# Altium footprint library Daxxn_Packages.PcbLib: 84 footprints (part 2 of 6)
Each footprint in its own frame and in the unit in brackets; x right, y up, seen from the top. Pads: shape width x height; smd on the part's side, far side on the other; paste and mask are expansions set on the pad; w line width, h text height; cw(c..) or ccw(c..) is an arc to the next point about the centre after c.
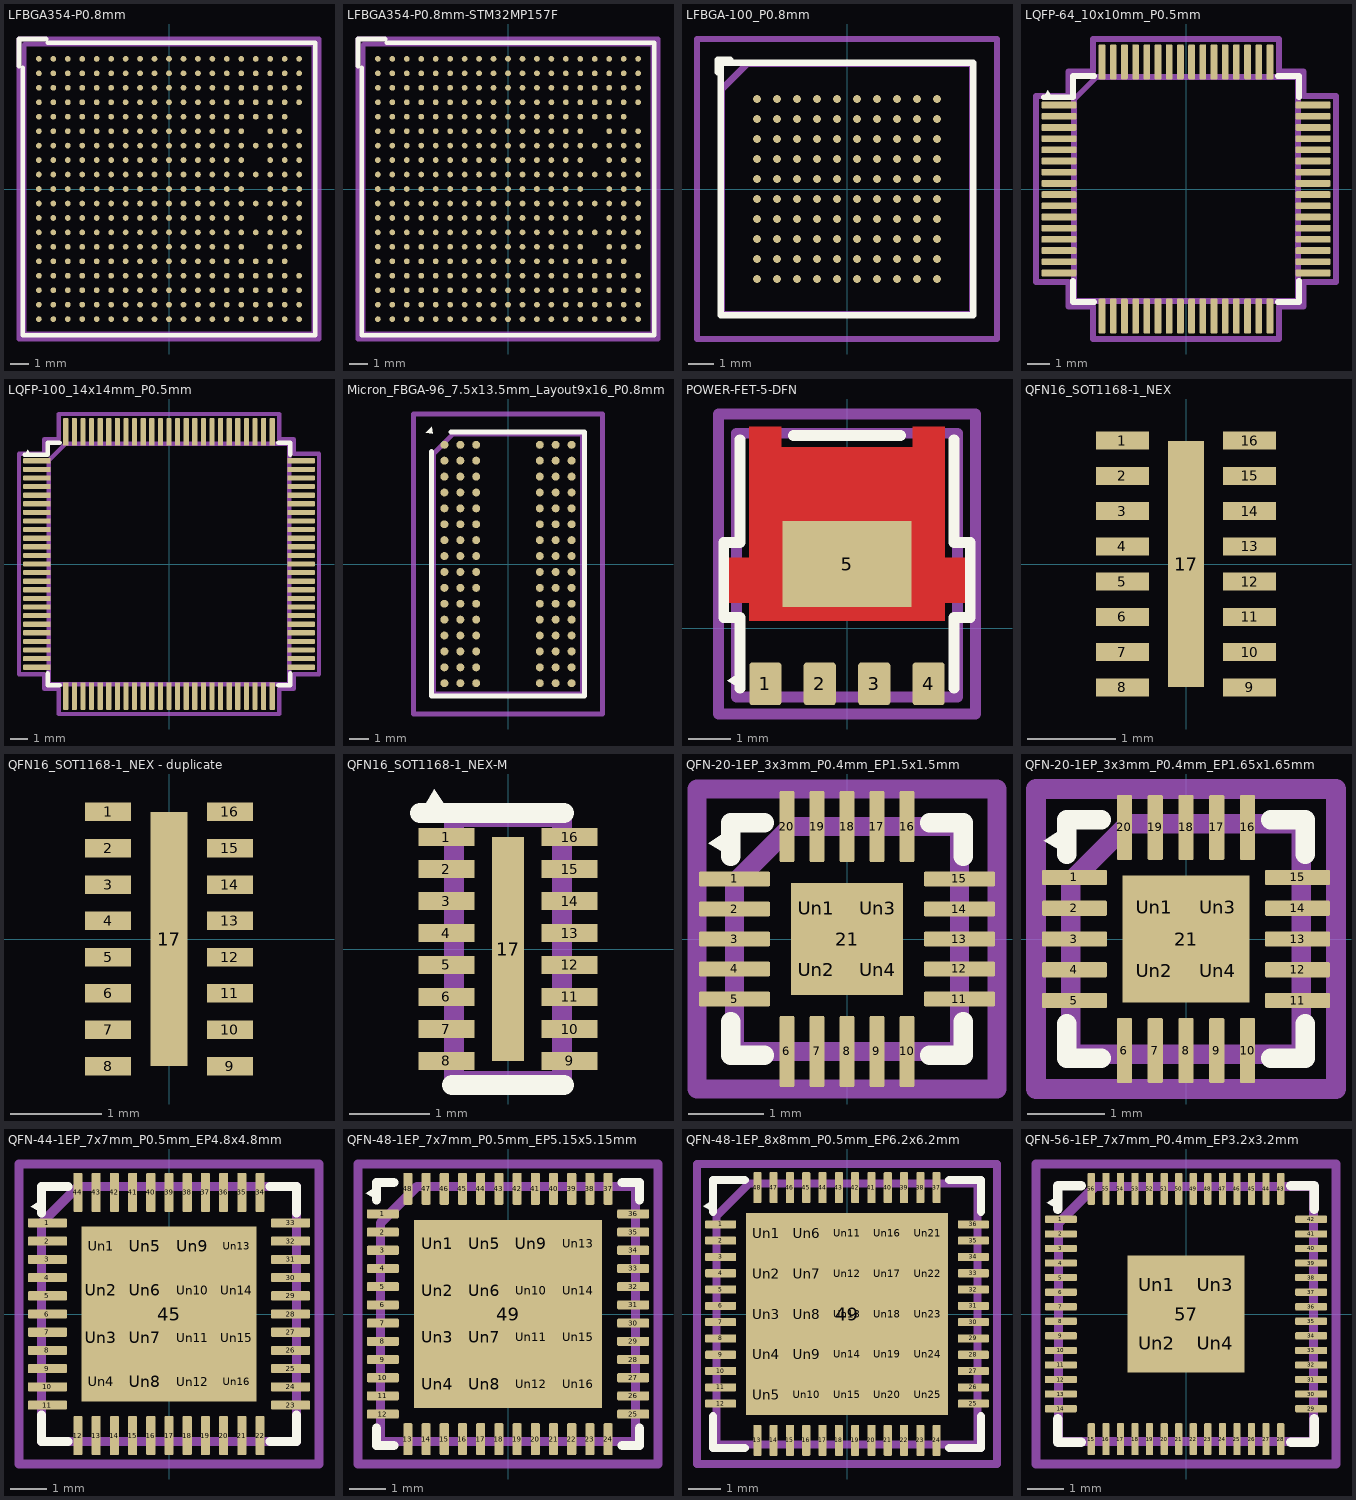
[diagram p1: the footprints below, top view; thin cyan lines are the x and y axes]

## LFBGA354-P0.8mm [mm]
pads (354):
  round 0.32 smd: A1(-7.2,7.2) A2(-6.4,7.2) A3(-5.6,7.2) A4(-4.8,7.2) A5(-4,7.2) A6(-3.2,7.2) A7(-2.4,7.2) A8(-1.6,7.2) A9(-0.8,7.2) A10(0,7.2) A11(0.8,7.2) A12(1.6,7.2) A13(2.4,7.2) A14(3.2,7.2) A15(4,7.2) A16(4.8,7.2) A17(5.6,7.2) A18(6.4,7.2) A19(7.2,7.2) B1(-7.2,6.4) B2(-6.4,6.4) B3(-5.6,6.4) B4(-4.8,6.4) B5(-4,6.4) B6(-3.2,6.4) B7(-2.4,6.4) B8(-1.6,6.4) B9(-0.8,6.4) B10(0,6.4) B11(0.8,6.4) B12(1.6,6.4) B13(2.4,6.4) B14(3.2,6.4) B15(4,6.4) B16(4.8,6.4) B17(5.6,6.4) B18(6.4,6.4) B19(7.2,6.4) C1(-7.2,5.6) C2(-6.4,5.6) C3(-5.6,5.6) C4(-4.8,5.6) C5(-4,5.6) C6(-3.2,5.6) C7(-2.4,5.6) C8(-1.6,5.6) C9(-0.8,5.6) C10(0,5.6) C11(0.8,5.6) C12(1.6,5.6) C13(2.4,5.6) C14(3.2,5.6) C15(4,5.6) C16(4.8,5.6) C17(5.6,5.6) C18(6.4,5.6) C19(7.2,5.6) D1(-7.2,4.8) D2(-6.4,4.8) D3(-5.6,4.8) D4(-4.8,4.8) D5(-4,4.8) D6(-3.2,4.8) D7(-2.4,4.8) D8(-1.6,4.8) D9(-0.8,4.8) D10(0,4.8) D11(0.8,4.8) D12(1.6,4.8) D13(2.4,4.8) D14(3.2,4.8) D15(4,4.8) D16(4.8,4.8) D17(5.6,4.8) D18(6.4,4.8) D19(7.2,4.8) E1(-7.2,4) E2(-6.4,4) E3(-5.6,4) E4(-4.8,4) E5(-4,4) E6(-3.2,4) E7(-2.4,4) E8(-1.6,4) E9(-0.8,4) E10(0,4) E11(0.8,4) E12(1.6,4) E13(2.4,4) E14(3.2,4) E15(4,4) E16(4.8,4) E17(5.6,4) E18(6.4,4) F1(-7.2,3.2) F2(-6.4,3.2) F3(-5.6,3.2) F4(-4.8,3.2) F5(-4,3.2) F6(-3.2,3.2) F7(-2.4,3.2) F8(-1.6,3.2) F9(-0.8,3.2) F10(0,3.2) F11(0.8,3.2) F12(1.6,3.2) F13(2.4,3.2) F14(3.2,3.2) F15(4,3.2) F17(5.6,3.2) F18(6.4,3.2) F19(7.2,3.2) G1(-7.2,2.4) G2(-6.4,2.4) G3(-5.6,2.4) G4(-4.8,2.4) G5(-4,2.4) G6(-3.2,2.4) G7(-2.4,2.4) G8(-1.6,2.4) G9(-0.8,2.4) G10(0,2.4) G11(0.8,2.4) G12(1.6,2.4) G13(2.4,2.4) G14(3.2,2.4) G15(4,2.4) G16(4.8,2.4) G17(5.6,2.4) G18(6.4,2.4) G19(7.2,2.4) H1(-7.2,1.6) H2(-6.4,1.6) H3(-5.6,1.6) H4(-4.8,1.6) H5(-4,1.6) H6(-3.2,1.6) H7(-2.4,1.6) H8(-1.6,1.6) H9(-0.8,1.6) H10(0,1.6) H11(0.8,1.6) H12(1.6,1.6) H13(2.4,1.6) H14(3.2,1.6) H15(4,1.6) H17(5.6,1.6) H18(6.4,1.6) H19(7.2,1.6) J1(-7.2,0.8) J2(-6.4,0.8) J3(-5.6,0.8) J4(-4.8,0.8) J5(-4,0.8) J6(-3.2,0.8) J7(-2.4,0.8) J8(-1.6,0.8) J9(-0.8,0.8) J10(0,0.8) J11(0.8,0.8) J12(1.6,0.8) J13(2.4,0.8) J14(3.2,0.8) J15(4,0.8) J16(4.8,0.8) J17(5.6,0.8) J18(6.4,0.8) J19(7.2,0.8) K1(-7.2,0) K2(-6.4,0) K3(-5.6,0) K4(-4.8,0) K5(-4,0) K6(-3.2,0) K7(-2.4,0) K8(-1.6,0) K9(-0.8,0) K10(0,0) K11(0.8,0) K12(1.6,0) K13(2.4,0) K14(3.2,0) K15(4,0) K17(5.6,0) K18(6.4,0) K19(7.2,0) L1(-7.2,-0.8) L2(-6.4,-0.8) L3(-5.6,-0.8) L4(-4.8,-0.8) L5(-4,-0.8) L6(-3.2,-0.8) L7(-2.4,-0.8) L8(-1.6,-0.8) L9(-0.8,-0.8) L10(0,-0.8) L11(0.8,-0.8) L12(1.6,-0.8) L13(2.4,-0.8) L14(3.2,-0.8) L15(4,-0.8) L16(4.8,-0.8) L17(5.6,-0.8) L18(6.4,-0.8) L19(7.2,-0.8) M1(-7.2,-1.6) M2(-6.4,-1.6) M3(-5.6,-1.6) M4(-4.8,-1.6) M5(-4,-1.6) M6(-3.2,-1.6) M7(-2.4,-1.6) M8(-1.6,-1.6) M9(-0.8,-1.6) M10(0,-1.6) M11(0.8,-1.6) M12(1.6,-1.6) M13(2.4,-1.6) M14(3.2,-1.6) M15(4,-1.6) M17(5.6,-1.6) M18(6.4,-1.6) M19(7.2,-1.6) N1(-7.2,-2.4) N2(-6.4,-2.4) N3(-5.6,-2.4) N4(-4.8,-2.4) N5(-4,-2.4) N6(-3.2,-2.4) N7(-2.4,-2.4) N8(-1.6,-2.4) N9(-0.8,-2.4) N10(0,-2.4) N11(0.8,-2.4) N12(1.6,-2.4) N13(2.4,-2.4) N14(3.2,-2.4) N15(4,-2.4) N16(4.8,-2.4) N17(5.6,-2.4) N18(6.4,-2.4) N19(7.2,-2.4) P1(-7.2,-3.2) P2(-6.4,-3.2) P3(-5.6,-3.2) P4(-4.8,-3.2) P5(-4,-3.2) P6(-3.2,-3.2) P7(-2.4,-3.2) P8(-1.6,-3.2) P9(-0.8,-3.2) P10(0,-3.2) P11(0.8,-3.2) P12(1.6,-3.2) P13(2.4,-3.2) P14(3.2,-3.2) P15(4,-3.2) P17(5.6,-3.2) P18(6.4,-3.2) P19(7.2,-3.2) R1(-7.2,-4) R2(-6.4,-4) R3(-5.6,-4) R4(-4.8,-4) R5(-4,-4) R6(-3.2,-4) R7(-2.4,-4) R8(-1.6,-4) R9(-0.8,-4) R10(0,-4) R11(0.8,-4) R12(1.6,-4) R13(2.4,-4) R14(3.2,-4) R15(4,-4) R16(4.8,-4) R17(5.6,-4) R18(6.4,-4) T1(-7.2,-4.8) T2(-6.4,-4.8) T3(-5.6,-4.8) T4(-4.8,-4.8) T5(-4,-4.8) T6(-3.2,-4.8) T7(-2.4,-4.8) T8(-1.6,-4.8) T9(-0.8,-4.8) T10(0,-4.8) T11(0.8,-4.8) T12(1.6,-4.8) T13(2.4,-4.8) T14(3.2,-4.8) T15(4,-4.8) T16(4.8,-4.8) T17(5.6,-4.8) T18(6.4,-4.8) T19(7.2,-4.8) U1(-7.2,-5.6) U2(-6.4,-5.6) U3(-5.6,-5.6) U4(-4.8,-5.6) U5(-4,-5.6) U6(-3.2,-5.6) U7(-2.4,-5.6) U8(-1.6,-5.6) U9(-0.8,-5.6) U10(0,-5.6) U11(0.8,-5.6) U12(1.6,-5.6) U13(2.4,-5.6) U14(3.2,-5.6) U15(4,-5.6) U16(4.8,-5.6) U17(5.6,-5.6) U18(6.4,-5.6) U19(7.2,-5.6) V1(-7.2,-6.4) V2(-6.4,-6.4) V3(-5.6,-6.4) V4(-4.8,-6.4) V5(-4,-6.4) V6(-3.2,-6.4) V7(-2.4,-6.4) V8(-1.6,-6.4) V9(-0.8,-6.4) V10(0,-6.4) V11(0.8,-6.4) V12(1.6,-6.4) V13(2.4,-6.4) V14(3.2,-6.4) V15(4,-6.4) V16(4.8,-6.4) V17(5.6,-6.4) V18(6.4,-6.4) V19(7.2,-6.4) W1(-7.2,-7.2) W2(-6.4,-7.2) W3(-5.6,-7.2) W4(-4.8,-7.2) W5(-4,-7.2) W6(-3.2,-7.2) W7(-2.4,-7.2) W8(-1.6,-7.2) W9(-0.8,-7.2) W10(0,-7.2) W11(0.8,-7.2) W12(1.6,-7.2) W13(2.4,-7.2) W14(3.2,-7.2) W15(4,-7.2) W16(4.8,-7.2) W17(5.6,-7.2) W18(6.4,-7.2) W19(7.2,-7.2)
F.SilkS:
  lines w0.254: -8.3,6.8 -8.3,8.3 -6.8,8.3 ; -8.1,6.7 -8.1,-8.1 8.1,-8.1 8.1,8.1 -6.7,8.1
F.CrtYd:
  lines w0.254: -8.3,-8.3 -8.3,8.3 8.3,8.3 8.3,-8.3 -8.3,-8.3
F.Fab:
  lines w0.254: -8,-8 -8,8 8,8 8,-8 -8,-8
  text "'.Designator'" at -2.073,0.33 h0.5

## LFBGA354-P0.8mm-STM32MP157F [mm]
pads (354):
  round 0.32 smd: A1(-7.2,7.2) A2(-6.4,7.2) A3(-5.6,7.2) A4(-4.8,7.2) A5(-4,7.2) A6(-3.2,7.2) A7(-2.4,7.2) A8(-1.6,7.2) A9(-0.8,7.2) A10(0,7.2) A11(0.8,7.2) A12(1.6,7.2) A13(2.4,7.2) A14(3.2,7.2) A15(4,7.2) A16(4.8,7.2) A17(5.6,7.2) A18(6.4,7.2) A19(7.2,7.2) B1(-7.2,6.4) B2(-6.4,6.4) B3(-5.6,6.4) B4(-4.8,6.4) B5(-4,6.4) B6(-3.2,6.4) B7(-2.4,6.4) B8(-1.6,6.4) B9(-0.8,6.4) B10(0,6.4) B11(0.8,6.4) B12(1.6,6.4) B13(2.4,6.4) B14(3.2,6.4) B15(4,6.4) B16(4.8,6.4) B17(5.6,6.4) B18(6.4,6.4) B19(7.2,6.4) C1(-7.2,5.6) C2(-6.4,5.6) C3(-5.6,5.6) C4(-4.8,5.6) C5(-4,5.6) C6(-3.2,5.6) C7(-2.4,5.6) C8(-1.6,5.6) C9(-0.8,5.6) C10(0,5.6) C11(0.8,5.6) C12(1.6,5.6) C13(2.4,5.6) C14(3.2,5.6) C15(4,5.6) C16(4.8,5.6) C17(5.6,5.6) C18(6.4,5.6) C19(7.2,5.6) D1(-7.2,4.8) D2(-6.4,4.8) D3(-5.6,4.8) D4(-4.8,4.8) D5(-4,4.8) D6(-3.2,4.8) D7(-2.4,4.8) D8(-1.6,4.8) D9(-0.8,4.8) D10(0,4.8) D11(0.8,4.8) D12(1.6,4.8) D13(2.4,4.8) D14(3.2,4.8) D15(4,4.8) D16(4.8,4.8) D17(5.6,4.8) D18(6.4,4.8) D19(7.2,4.8) E1(-7.2,4) E2(-6.4,4) E3(-5.6,4) E4(-4.8,4) E5(-4,4) E6(-3.2,4) E7(-2.4,4) E8(-1.6,4) E9(-0.8,4) E10(0,4) E11(0.8,4) E12(1.6,4) E13(2.4,4) E14(3.2,4) E15(4,4) E16(4.8,4) E17(5.6,4) E18(6.4,4) F1(-7.2,3.2) F2(-6.4,3.2) F3(-5.6,3.2) F4(-4.8,3.2) F5(-4,3.2) F6(-3.2,3.2) F7(-2.4,3.2) F8(-1.6,3.2) F9(-0.8,3.2) F10(0,3.2) F11(0.8,3.2) F12(1.6,3.2) F13(2.4,3.2) F14(3.2,3.2) F15(4,3.2) F17(5.6,3.2) F18(6.4,3.2) F19(7.2,3.2) G1(-7.2,2.4) G2(-6.4,2.4) G3(-5.6,2.4) G4(-4.8,2.4) G5(-4,2.4) G6(-3.2,2.4) G7(-2.4,2.4) G8(-1.6,2.4) G9(-0.8,2.4) G10(0,2.4) G11(0.8,2.4) G12(1.6,2.4) G13(2.4,2.4) G14(3.2,2.4) G15(4,2.4) G16(4.8,2.4) G17(5.6,2.4) G18(6.4,2.4) G19(7.2,2.4) H1(-7.2,1.6) H2(-6.4,1.6) H3(-5.6,1.6) H4(-4.8,1.6) H5(-4,1.6) H6(-3.2,1.6) H7(-2.4,1.6) H8(-1.6,1.6) H9(-0.8,1.6) H10(0,1.6) H11(0.8,1.6) H12(1.6,1.6) H13(2.4,1.6) H14(3.2,1.6) H15(4,1.6) H17(5.6,1.6) H18(6.4,1.6) H19(7.2,1.6) J1(-7.2,0.8) J2(-6.4,0.8) J3(-5.6,0.8) J4(-4.8,0.8) J5(-4,0.8) J6(-3.2,0.8) J7(-2.4,0.8) J8(-1.6,0.8) J9(-0.8,0.8) J10(0,0.8) J11(0.8,0.8) J12(1.6,0.8) J13(2.4,0.8) J14(3.2,0.8) J15(4,0.8) J16(4.8,0.8) J17(5.6,0.8) J18(6.4,0.8) J19(7.2,0.8) K1(-7.2,0) K2(-6.4,0) K3(-5.6,0) K4(-4.8,0) K5(-4,0) K6(-3.2,0) K7(-2.4,0) K8(-1.6,0) K9(-0.8,0) K10(0,0) K11(0.8,0) K12(1.6,0) K13(2.4,0) K14(3.2,0) K15(4,0) K17(5.6,0) K18(6.4,0) K19(7.2,0) L1(-7.2,-0.8) L2(-6.4,-0.8) L3(-5.6,-0.8) L4(-4.8,-0.8) L5(-4,-0.8) L6(-3.2,-0.8) L7(-2.4,-0.8) L8(-1.6,-0.8) L9(-0.8,-0.8) L10(0,-0.8) L11(0.8,-0.8) L12(1.6,-0.8) L13(2.4,-0.8) L14(3.2,-0.8) L15(4,-0.8) L16(4.8,-0.8) L17(5.6,-0.8) L18(6.4,-0.8) L19(7.2,-0.8) M1(-7.2,-1.6) M2(-6.4,-1.6) M3(-5.6,-1.6) M4(-4.8,-1.6) M5(-4,-1.6) M6(-3.2,-1.6) M7(-2.4,-1.6) M8(-1.6,-1.6) M9(-0.8,-1.6) M10(0,-1.6) M11(0.8,-1.6) M12(1.6,-1.6) M13(2.4,-1.6) M14(3.2,-1.6) M15(4,-1.6) M17(5.6,-1.6) M18(6.4,-1.6) M19(7.2,-1.6) N1(-7.2,-2.4) N2(-6.4,-2.4) N3(-5.6,-2.4) N4(-4.8,-2.4) N5(-4,-2.4) N6(-3.2,-2.4) N7(-2.4,-2.4) N8(-1.6,-2.4) N9(-0.8,-2.4) N10(0,-2.4) N11(0.8,-2.4) N12(1.6,-2.4) N13(2.4,-2.4) N14(3.2,-2.4) N15(4,-2.4) N16(4.8,-2.4) N17(5.6,-2.4) N18(6.4,-2.4) N19(7.2,-2.4) P1(-7.2,-3.2) P2(-6.4,-3.2) P3(-5.6,-3.2) P4(-4.8,-3.2) P5(-4,-3.2) P6(-3.2,-3.2) P7(-2.4,-3.2) P8(-1.6,-3.2) P9(-0.8,-3.2) P10(0,-3.2) P11(0.8,-3.2) P12(1.6,-3.2) P13(2.4,-3.2) P14(3.2,-3.2) P15(4,-3.2) P17(5.6,-3.2) P18(6.4,-3.2) P19(7.2,-3.2) R1(-7.2,-4) R2(-6.4,-4) R3(-5.6,-4) R4(-4.8,-4) R5(-4,-4) R6(-3.2,-4) R7(-2.4,-4) R8(-1.6,-4) R9(-0.8,-4) R10(0,-4) R11(0.8,-4) R12(1.6,-4) R13(2.4,-4) R14(3.2,-4) R15(4,-4) R16(4.8,-4) R17(5.6,-4) R18(6.4,-4) T1(-7.2,-4.8) T2(-6.4,-4.8) T3(-5.6,-4.8) T4(-4.8,-4.8) T5(-4,-4.8) T6(-3.2,-4.8) T7(-2.4,-4.8) T8(-1.6,-4.8) T9(-0.8,-4.8) T10(0,-4.8) T11(0.8,-4.8) T12(1.6,-4.8) T13(2.4,-4.8) T14(3.2,-4.8) T15(4,-4.8) T16(4.8,-4.8) T17(5.6,-4.8) T18(6.4,-4.8) T19(7.2,-4.8) U1(-7.2,-5.6) U2(-6.4,-5.6) U3(-5.6,-5.6) U4(-4.8,-5.6) U5(-4,-5.6) U6(-3.2,-5.6) U7(-2.4,-5.6) U8(-1.6,-5.6) U9(-0.8,-5.6) U10(0,-5.6) U11(0.8,-5.6) U12(1.6,-5.6) U13(2.4,-5.6) U14(3.2,-5.6) U15(4,-5.6) U16(4.8,-5.6) U17(5.6,-5.6) U18(6.4,-5.6) U19(7.2,-5.6) V1(-7.2,-6.4) V2(-6.4,-6.4) V3(-5.6,-6.4) V4(-4.8,-6.4) V5(-4,-6.4) V6(-3.2,-6.4) V7(-2.4,-6.4) V8(-1.6,-6.4) V9(-0.8,-6.4) V10(0,-6.4) V11(0.8,-6.4) V12(1.6,-6.4) V13(2.4,-6.4) V14(3.2,-6.4) V15(4,-6.4) V16(4.8,-6.4) V17(5.6,-6.4) V18(6.4,-6.4) V19(7.2,-6.4) W1(-7.2,-7.2) W2(-6.4,-7.2) W3(-5.6,-7.2) W4(-4.8,-7.2) W5(-4,-7.2) W6(-3.2,-7.2) W7(-2.4,-7.2) W8(-1.6,-7.2) W9(-0.8,-7.2) W10(0,-7.2) W11(0.8,-7.2) W12(1.6,-7.2) W13(2.4,-7.2) W14(3.2,-7.2) W15(4,-7.2) W16(4.8,-7.2) W17(5.6,-7.2) W18(6.4,-7.2) W19(7.2,-7.2)
F.SilkS:
  lines w0.254: -8.3,6.8 -8.3,8.3 -6.8,8.3 ; -8.1,6.7 -8.1,-8.1 8.1,-8.1 8.1,8.1 -6.7,8.1
F.CrtYd:
  lines w0.254: -8.3,-8.3 -8.3,8.3 8.3,8.3 8.3,-8.3 -8.3,-8.3
F.Fab:
  lines w0.254: -8,-8 -8,8 8,8 8,-8 -8,-8
  text "'.Designator'" at -2.073,0.33 h0.5

## LFBGA-100_P0.8mm [mm]
pads (100):
  round 0.32 smd: A0(-3.6,3.6) A1(-2.8,3.6) A2(-2,3.6) A3(-1.2,3.6) A4(-0.4,3.6) A5(0.4,3.6) A6(1.2,3.6) A7(2,3.6) A8(2.8,3.6) A9(3.6,3.6) B0(-3.6,2.8) B1(-2.8,2.8) B2(-2,2.8) B3(-1.2,2.8) B4(-0.4,2.8) B5(0.4,2.8) B6(1.2,2.8) B7(2,2.8) B8(2.8,2.8) B9(3.6,2.8) C0(-3.6,2) C1(-2.8,2) C2(-2,2) C3(-1.2,2) C4(-0.4,2) C5(0.4,2) C6(1.2,2) C7(2,2) C8(2.8,2) C9(3.6,2) D0(-3.6,1.2) D1(-2.8,1.2) D2(-2,1.2) D3(-1.2,1.2) D4(-0.4,1.2) D5(0.4,1.2) D6(1.2,1.2) D7(2,1.2) D8(2.8,1.2) D9(3.6,1.2) E0(-3.6,0.4) E1(-2.8,0.4) E2(-2,0.4) E3(-1.2,0.4) E4(-0.4,0.4) E5(0.4,0.4) E6(1.2,0.4) E7(2,0.4) E8(2.8,0.4) E9(3.6,0.4) F0(-3.6,-0.4) F1(-2.8,-0.4) F2(-2,-0.4) F3(-1.2,-0.4) F4(-0.4,-0.4) F5(0.4,-0.4) F6(1.2,-0.4) F7(2,-0.4) F8(2.8,-0.4) F9(3.6,-0.4) G0(-3.6,-1.2) G1(-2.8,-1.2) G2(-2,-1.2) G3(-1.2,-1.2) G4(-0.4,-1.2) G5(0.4,-1.2) G6(1.2,-1.2) G7(2,-1.2) G8(2.8,-1.2) G9(3.6,-1.2) H0(-3.6,-2) H1(-2.8,-2) H2(-2,-2) H3(-1.2,-2) H4(-0.4,-2) H5(0.4,-2) H6(1.2,-2) H7(2,-2) H8(2.8,-2) H9(3.6,-2) J0(-3.6,-2.8) J1(-2.8,-2.8) J2(-2,-2.8) J3(-1.2,-2.8) J4(-0.4,-2.8) J5(0.4,-2.8) J6(1.2,-2.8) J7(2,-2.8) J8(2.8,-2.8) J9(3.6,-2.8) K0(-3.6,-3.6) K1(-2.8,-3.6) K2(-2,-3.6) K3(-1.2,-3.6) K4(-0.4,-3.6) K5(0.4,-3.6) K6(1.2,-3.6) K7(2,-3.6) K8(2.8,-3.6) K9(3.6,-3.6)
F.SilkS:
  lines w0.254: -5.17,4.67 -5.17,5.17 -4.67,5.17 ; -5.05,-5.05 -5.05,5.05 5.05,5.05 5.05,-5.05 -5.05,-5.05
F.CrtYd:
  lines w0.254: -6,-6 -6,6 6,6 6,-6 -6,-6
F.Fab:
  lines w0.254: -5,-5 -5,4 -4,5 5,5 5,-5 -5,-5
  text "'.Designator'" at -1.037,-0.01 h0.25

## LQFP-64_10x10mm_P0.5mm [mm]
pads (64):
  rrect25% 1.55x0.3 smd: 1(-5.675,3.75) 2(-5.675,3.25) 3(-5.675,2.75) 4(-5.675,2.25) 5(-5.675,1.75) 6(-5.675,1.25) 7(-5.675,0.75) 8(-5.675,0.25) 9(-5.675,-0.25) 10(-5.675,-0.75) 11(-5.675,-1.25) 12(-5.675,-1.75) 13(-5.675,-2.25) 14(-5.675,-2.75) 15(-5.675,-3.25) 16(-5.675,-3.75) 33(5.675,-3.75) 34(5.675,-3.25) 35(5.675,-2.75) 36(5.675,-2.25) 37(5.675,-1.75) 38(5.675,-1.25) 39(5.675,-0.75) 40(5.675,-0.25) 41(5.675,0.25) 42(5.675,0.75) 43(5.675,1.25) 44(5.675,1.75) 45(5.675,2.25) 46(5.675,2.75) 47(5.675,3.25) 48(5.675,3.75)
  rrect25% 0.3x1.55 smd: 17(-3.75,-5.675) 18(-3.25,-5.675) 19(-2.75,-5.675) 20(-2.25,-5.675) 21(-1.75,-5.675) 22(-1.25,-5.675) 23(-0.75,-5.675) 24(-0.25,-5.675) 25(0.25,-5.675) 26(0.75,-5.675) 27(1.25,-5.675) 28(1.75,-5.675) 29(2.25,-5.675) 30(2.75,-5.675) 31(3.25,-5.675) 32(3.75,-5.675) 49(3.75,5.675) 50(3.25,5.675) 51(2.75,5.675) 52(2.25,5.675) 53(1.75,5.675) 54(1.25,5.675) 55(0.75,5.675) 56(0.25,5.675) 57(-0.25,5.675) 58(-0.75,5.675) 59(-1.25,5.675) 60(-1.75,5.675) 61(-2.25,5.675) 62(-2.75,5.675) 63(-3.25,5.675) 64(-3.75,5.675)
F.SilkS:
  region: -5.975,4.1 -6.35,4.1 -6.175,4.4
  lines w0.254: -6.35,4.1 -5.05,4.1 -5.05,5.05 -4.1,5.05 ; -5.05,-4.1 -5.05,-5.05 -4.1,-5.05 ; 4.1,-5.05 5.05,-5.05 5.05,-4.1 ; 4.1,5.05 5.05,5.05 5.05,4.1
F.CrtYd:
  lines w0.254: -6.7,-4.15 -6.7,0 -6.7,4.15 -5.25,4.15 -5.25,5.25 -4.15,5.25 -4.15,6.7 0,6.7 4.15,6.7 4.15,5.25 5.25,5.25 5.25,4.15 6.7,4.15 6.7,0 6.7,-4.15 5.25,-4.15 5.25,-5.25 4.15,-5.25 4.15,-6.7 0,-6.7 -4.15,-6.7 -4.15,-5.25 -5.25,-5.25 -5.25,-4.15 -6.7,-4.15
F.Fab:
  lines w0.254: -5,-5 -5,4 -4,5 5,5 5,-5 -5,-5
  text "'.Designator'" at -2.073,-0.02 h0.5

## LQFP-100_14x14mm_P0.5mm [mm]
pads (100):
  rrect25% 1.6x0.3 smd: 1(-7.675,6) 2(-7.675,5.5) 3(-7.675,5) 4(-7.675,4.5) 5(-7.675,4) 6(-7.675,3.5) 7(-7.675,3) 8(-7.675,2.5) 9(-7.675,2) 10(-7.675,1.5) 11(-7.675,1) 12(-7.675,0.5) 13(-7.675,0) 14(-7.675,-0.5) 15(-7.675,-1) 16(-7.675,-1.5) 17(-7.675,-2) 18(-7.675,-2.5) 19(-7.675,-3) 20(-7.675,-3.5) 21(-7.675,-4) 22(-7.675,-4.5) 23(-7.675,-5) 24(-7.675,-5.5) 25(-7.675,-6) 51(7.675,-6) 52(7.675,-5.5) 53(7.675,-5) 54(7.675,-4.5) 55(7.675,-4) 56(7.675,-3.5) 57(7.675,-3) 58(7.675,-2.5) 59(7.675,-2) 60(7.675,-1.5) 61(7.675,-1) 62(7.675,-0.5) 63(7.675,0) 64(7.675,0.5) 65(7.675,1) 66(7.675,1.5) 67(7.675,2) 68(7.675,2.5) 69(7.675,3) 70(7.675,3.5) 71(7.675,4) 72(7.675,4.5) 73(7.675,5) 74(7.675,5.5) 75(7.675,6)
  rrect25% 0.3x1.6 smd: 26(-6,-7.675) 27(-5.5,-7.675) 28(-5,-7.675) 29(-4.5,-7.675) 30(-4,-7.675) 31(-3.5,-7.675) 32(-3,-7.675) 33(-2.5,-7.675) 34(-2,-7.675) 35(-1.5,-7.675) 36(-1,-7.675) 37(-0.5,-7.675) 38(0,-7.675) 39(0.5,-7.675) 40(1,-7.675) 41(1.5,-7.675) 42(2,-7.675) 43(2.5,-7.675) 44(3,-7.675) 45(3.5,-7.675) 46(4,-7.675) 47(4.5,-7.675) 48(5,-7.675) 49(5.5,-7.675) 50(6,-7.675) 76(6,7.675) 77(5.5,7.675) 78(5,7.675) 79(4.5,7.675) 80(4,7.675) 81(3.5,7.675) 82(3,7.675) 83(2.5,7.675) 84(2,7.675) 85(1.5,7.675) 86(1,7.675) 87(0.5,7.675) 88(0,7.675) 89(-0.5,7.675) 90(-1,7.675) 91(-1.5,7.675) 92(-2,7.675) 93(-2.5,7.675) 94(-3,7.675) 95(-3.5,7.675) 96(-4,7.675) 97(-4.5,7.675) 98(-5,7.675) 99(-5.5,7.675) 100(-6,7.675)
F.SilkS:
  region: -8.025,6.35 -8.4,6.35 -8.225,6.65
  lines w0.254: -8.4,6.35 -7.05,6.35 -7.05,7.05 -6.35,7.05 ; -7.05,-6.35 -7.05,-7.05 -6.35,-7.05 ; 6.35,-7.05 7.05,-7.05 7.05,-6.35 ; 6.35,7.05 7.05,7.05 7.05,6.35
F.CrtYd:
  lines w0.254: -8.72,-6.4 -8.72,0 -8.72,6.4 -7.25,6.4 -7.25,7.25 -6.4,7.25 -6.4,8.72 0,8.72 6.4,8.72 6.4,7.25 7.25,7.25 7.25,6.4 8.72,6.4 8.72,0 8.72,-6.4 7.25,-6.4 7.25,-7.25 6.4,-7.25 6.4,-8.72 0,-8.72 -6.4,-8.72 -6.4,-7.25 -7.25,-7.25 -7.25,-6.4 -8.72,-6.4
F.Fab:
  lines w0.254: -7,-7 -7,6 -6,7 7,7 7,-7 -7,-7
  text "'.Designator'" at -2.073,0.02 h0.5

## Micron_FBGA-96_7.5x13.5mm_Layout9x16_P0.8mm [mm]
pads (96):
  round 0.4 smd: A1(-3.2,6) A2(-2.4,6) A3(-1.6,6) A7(1.6,6) A8(2.4,6) A9(3.2,6) B1(-3.2,5.2) B2(-2.4,5.2) B3(-1.6,5.2) B7(1.6,5.2) B8(2.4,5.2) B9(3.2,5.2) C1(-3.2,4.4) C2(-2.4,4.4) C3(-1.6,4.4) C7(1.6,4.4) C8(2.4,4.4) C9(3.2,4.4) D1(-3.2,3.6) D2(-2.4,3.6) D3(-1.6,3.6) D7(1.6,3.6) D8(2.4,3.6) D9(3.2,3.6) E1(-3.2,2.8) E2(-2.4,2.8) E3(-1.6,2.8) E7(1.6,2.8) E8(2.4,2.8) E9(3.2,2.8) F1(-3.2,2) F2(-2.4,2) F3(-1.6,2) F7(1.6,2) F8(2.4,2) F9(3.2,2) G1(-3.2,1.2) G2(-2.4,1.2) G3(-1.6,1.2) G7(1.6,1.2) G8(2.4,1.2) G9(3.2,1.2) H1(-3.2,0.4) H2(-2.4,0.4) H3(-1.6,0.4) H7(1.6,0.4) H8(2.4,0.4) H9(3.2,0.4) J1(-3.2,-0.4) J2(-2.4,-0.4) J3(-1.6,-0.4) J7(1.6,-0.4) J8(2.4,-0.4) J9(3.2,-0.4) K1(-3.2,-1.2) K2(-2.4,-1.2) K3(-1.6,-1.2) K7(1.6,-1.2) K8(2.4,-1.2) K9(3.2,-1.2) L1(-3.2,-2) L2(-2.4,-2) L3(-1.6,-2) L7(1.6,-2) L8(2.4,-2) L9(3.2,-2) M1(-3.2,-2.8) M2(-2.4,-2.8) M3(-1.6,-2.8) M7(1.6,-2.8) M8(2.4,-2.8) M9(3.2,-2.8) N1(-3.2,-3.6) N2(-2.4,-3.6) N3(-1.6,-3.6) N7(1.6,-3.6) N8(2.4,-3.6) N9(3.2,-3.6) P1(-3.2,-4.4) P2(-2.4,-4.4) P3(-1.6,-4.4) P7(1.6,-4.4) P8(2.4,-4.4) P9(3.2,-4.4) R1(-3.2,-5.2) R2(-2.4,-5.2) R3(-1.6,-5.2) R7(1.6,-5.2) R8(2.4,-5.2) R9(3.2,-5.2) T1(-3.2,-6) T2(-2.4,-6) T3(-1.6,-6) T7(1.6,-6) T8(2.4,-6) T9(3.2,-6)
F.SilkS:
  region: -3.8,6.55 -4.15,6.6 -3.85,6.9
  lines w0.254: -3.86,5.65 -3.86,-6.65 3.86,-6.65 3.86,6.65 -2.86,6.65
F.CrtYd:
  lines w0.254: -4.75,-7.55 -4.75,7.55 4.75,7.55 4.75,-7.55 -4.75,-7.55
F.Fab:
  lines w0.254: -3.75,-6.55 -3.75,5.55 -2.75,6.55 3.75,6.55 3.75,-6.55 -3.75,-6.55
  text "'.Designator'" at -0.015,-1.037 h0.25

## POWER-FET-5-DFN [mm]
pads (5):
  rrect20% 0.75x1 smd: 1(-1.905,-1.295) 2(-0.635,-1.295) 3(0.635,-1.295) 4(1.905,-1.295)
  rect 3x2 smd: 5(0,1.5)
F.Cu:
  region: -1.53,3.29 -2.28,3.29 -2.28,3.765 -1.53,3.765
  region: 2.28,3.29 1.53,3.29 1.53,3.765 2.28,3.765
  region: 2.28,1.65 2.775,1.65 2.775,0.595 2.28,0.595 2.28,0.17 -2.28,0.17 -2.28,0.595 -2.775,0.595 -2.775,1.65 -2.28,1.65 -2.28,4.7 -1.53,4.7 -1.53,4.225 1.53,4.225 1.53,4.7 2.28,4.7
F.SilkS:
  region: -2.5,-1.4 -2.8,-1.225 -2.5,-1.025
  lines w0.254: -2.5,-1.4 -2.5,0.25 -2.875,0.25 -2.875,2 -2.5,2 -2.5,4.4 ; -1.25,4.5 1.25,4.5 ; 2.5,-1.4 2.5,0.25 2.875,0.25 2.875,2 2.5,2 2.5,4.4
F.Paste:
  region: 1.5,0.5 -1.5,0.5 -1.5,4 1.5,4
  lines w0.254: -1.5,0.5 -1.5,4 1.5,4 1.5,0.5 -1.5,0.5
F.Mask:
  region: -1.53,3.29 -2.28,3.29 -2.28,3.765 -1.53,3.765
  region: 2.28,3.29 1.53,3.29 1.53,3.765 2.28,3.765
  region: 2.28,1.65 2.775,1.65 2.775,0.595 2.28,0.595 2.28,0.17 -2.28,0.17 -2.28,0.595 -2.775,0.595 -2.775,1.65 -2.28,1.65 -2.28,4.7 -1.53,4.7 -1.53,4.225 1.53,4.225 1.53,4.7 2.28,4.7
F.CrtYd:
  lines w0.254: -3,-2 -3,5 3,5 3,-2 -3,-2
F.Fab:
  lines w0.254: -2.575,-1.6 -2.575,4.55 2.575,4.55 2.575,-1.6 -2.575,-1.6
  text "'.Designator'" at -1.037,1.065 h0.25

## QFN16_SOT1168-1_NEX [mm]
pads (17):
  rect 0.605x0.204 smd: 1(-0.721,1.4) 2(-0.721,1) 3(-0.721,0.6) 4(-0.721,0.2) 5(-0.721,-0.2) 6(-0.721,-0.6) 7(-0.721,-1) 8(-0.721,-1.4) 9(0.721,-1.4) 10(0.721,-1) 11(0.721,-0.6) 12(0.721,-0.2) 13(0.721,0.2) 14(0.721,0.6) 15(0.721,1) 16(0.721,1.4)
  rect 0.406x2.794 smd: 17(0,0)
F.Fab:
  text "'.Designator'" at -4.047,-0.84 h1

## QFN16_SOT1168-1_NEX - duplicate [mm]
pads (17):
  rect 0.505x0.204 smd: 1(-0.671,1.4) 2(-0.671,1) 3(-0.671,0.6) 4(-0.671,0.2) 5(-0.671,-0.2) 6(-0.671,-0.6) 7(-0.671,-1) 8(-0.671,-1.4) 9(0.671,-1.4) 10(0.671,-1) 11(0.671,-0.6) 12(0.671,-0.2) 13(0.671,0.2) 14(0.671,0.6) 15(0.671,1) 16(0.671,1.4)
  rect 0.406x2.794 smd: 17(0,0)
F.Fab:
  text "'.Designator'" at -4.047,-0.84 h1

## QFN16_SOT1168-1_NEX-M [mm]
pads (17):
  rect 0.7x0.22 smd: 1(-0.771,1.4) 2(-0.771,1) 3(-0.771,0.6) 4(-0.771,0.2) 5(-0.771,-0.2) 6(-0.771,-0.6) 7(-0.771,-1) 8(-0.771,-1.4) 9(0.771,-1.4) 10(0.771,-1) 11(0.771,-0.6) 12(0.771,-0.2) 13(0.771,0.2) 14(0.771,0.6) 15(0.771,1) 16(0.771,1.4)
  rect 0.4x2.8 smd: 17(0,0)
F.SilkS:
  region: -0.725,1.7 -1.1,1.7 -0.925,2
  lines w0.254: -1.1,1.7 0.7,1.7 ; -0.7,-1.7 0.7,-1.7
F.Fab:
  lines w0.254: -0.675,-1.65 -0.675,1.65 0.675,1.65 0.675,-1.65 -0.675,-1.65
  text "'.Designator'" at -0.065,-1.037 h0.25

## QFN-20-1EP_3x3mm_P0.4mm_EP1.5x1.5mm [mm]
pads (25):
  rrect25% 0.95x0.2 smd: 1(-1.5,0.8) 2(-1.5,0.4) 3(-1.5,0) 4(-1.5,-0.4) 5(-1.5,-0.8) 11(1.5,-0.8) 12(1.5,-0.4) 13(1.5,0) 14(1.5,0.4) 15(1.5,0.8)
  rrect25% 0.2x0.95 smd: 6(-0.8,-1.5) 7(-0.4,-1.5) 8(0,-1.5) 9(0.4,-1.5) 10(0.8,-1.5) 16(0.8,1.5) 17(0.4,1.5) 18(0,1.5) 19(-0.4,1.5) 20(-0.8,1.5)
  rect 1.5x1.5 smd: 21(0,0)
  rrect25% 0.67x0.67 on Top Paste: Un1(-0.41,0.41) Un2(-0.41,-0.41) Un3(0.41,0.41) Un4(0.41,-0.41)
F.SilkS:
  region: -1.55,1.1 -1.85,1.275 -1.55,1.475
  lines w0.254: -1.55,-1.1 -1.55,-1.55 -1.1,-1.55 ; -1.55,1.1 -1.55,1.55 -1.1,1.55 ; 1.1,-1.55 1.55,-1.55 1.55,-1.1 ; 1.1,1.55 1.55,1.55 1.55,1.1
F.CrtYd:
  lines w0.254: -2,-2 -2,2 2,2 2,-2 -2,-2
F.Fab:
  lines w0.254: -1.5,-1.5 -1.5,0.75 -0.75,1.5 1.5,1.5 1.5,-1.5 -1.5,-1.5
  text "'.Designator'" at -1.037,0.015 h0.25

## QFN-20-1EP_3x3mm_P0.4mm_EP1.65x1.65mm [mm]
pads (25):
  rrect25% 0.85x0.2 smd: 1(-1.45,0.8) 2(-1.45,0.4) 3(-1.45,0) 4(-1.45,-0.4) 5(-1.45,-0.8) 11(1.45,-0.8) 12(1.45,-0.4) 13(1.45,0) 14(1.45,0.4) 15(1.45,0.8)
  rrect25% 0.2x0.85 smd: 6(-0.8,-1.45) 7(-0.4,-1.45) 8(0,-1.45) 9(0.4,-1.45) 10(0.8,-1.45) 16(0.8,1.45) 17(0.4,1.45) 18(0,1.45) 19(-0.4,1.45) 20(-0.8,1.45)
  rect 1.65x1.65 smd: 21(0,0)
  rrect25% 0.67x0.67 on Top Paste: Un1(-0.41,0.41) Un2(-0.41,-0.41) Un3(0.41,0.41) Un4(0.41,-0.41)
F.SilkS:
  region: -1.55,1.1 -1.85,1.275 -1.55,1.475
  lines w0.254: -1.55,-1.1 -1.55,-1.55 -1.1,-1.55 ; -1.55,1.1 -1.55,1.55 -1.1,1.55 ; 1.1,-1.55 1.55,-1.55 1.55,-1.1 ; 1.1,1.55 1.55,1.55 1.55,1.1
F.CrtYd:
  lines w0.254: -1.95,-1.95 -1.95,1.95 1.95,1.95 1.95,-1.95 -1.95,-1.95
F.Fab:
  lines w0.254: -1.5,-1.5 -1.5,0.75 -0.75,1.5 1.5,1.5 1.5,-1.5 -1.5,-1.5
  text "'.Designator'" at -1.037,-0.01 h0.25

## QFN-44-1EP_7x7mm_P0.5mm_EP4.8x4.8mm [mm]
pads (61):
  rrect25% 1.075x0.25 smd: 1(-3.337,2.5) 2(-3.337,2) 3(-3.337,1.5) 4(-3.337,1) 5(-3.337,0.5) 6(-3.337,0) 7(-3.337,-0.5) 8(-3.337,-1) 9(-3.337,-1.5) 10(-3.337,-2) 11(-3.337,-2.5) 23(3.337,-2.5) 24(3.337,-2) 25(3.337,-1.5) 26(3.337,-1) 27(3.337,-0.5) 28(3.337,0) 29(3.337,0.5) 30(3.337,1) 31(3.337,1.5) 32(3.337,2) 33(3.337,2.5)
  rrect25% 0.25x1.075 smd: 12(-2.5,-3.337) 13(-2,-3.337) 14(-1.5,-3.337) 15(-1,-3.337) 16(-0.5,-3.337) 17(0,-3.337) 18(0.5,-3.337) 19(1,-3.337) 20(1.5,-3.337) 21(2,-3.337) 22(2.5,-3.337) 34(2.5,3.337) 35(2,3.337) 36(1.5,3.337) 37(1,3.337) 38(0.5,3.337) 39(0,3.337) 40(-0.5,3.337) 41(-1,3.337) 42(-1.5,3.337) 43(-2,3.337) 44(-2.5,3.337)
  rect 4.8x4.8 smd: 45(0,0)
  rrect24% 0.875x0.875 on Top Paste: Un1(-1.863,1.863) Un4(-1.863,-1.863) Un13(1.863,1.863) Un16(1.863,-1.863)
  rrect24% 0.875x1.05 on Top Paste: Un2(-1.863,0.65) Un3(-1.863,-0.65) Un14(1.863,0.65) Un15(1.863,-0.65)
  rrect24% 1.05x0.875 on Top Paste: Un5(-0.65,1.863) Un8(-0.65,-1.863) Un9(0.65,1.863) Un12(0.65,-1.863)
  rrect24% 1.05x1.05 on Top Paste: Un6(-0.65,0.65) Un7(-0.65,-0.65) Un10(0.65,0.65) Un11(0.65,-0.65)
F.SilkS:
  region: -3.5,2.775 -3.8,2.95 -3.5,3.15
  lines w0.254: -3.5,-2.775 -3.5,-3.5 -2.775,-3.5 ; -3.5,2.775 -3.5,3.5 -2.775,3.5 ; 2.775,-3.5 3.5,-3.5 3.5,-2.775 ; 2.775,3.5 3.5,3.5 3.5,2.775
F.CrtYd:
  lines w0.254: -4.12,-4.12 -4.12,4.12 4.12,4.12 4.12,-4.12 -4.12,-4.12
F.Fab:
  lines w0.254: -3.5,-3.5 -3.5,2.5 -2.5,3.5 3.5,3.5 3.5,-3.5 -3.5,-3.5
  text "'.Designator'" at -1.037,0.04 h0.25

## QFN-48-1EP_7x7mm_P0.5mm_EP5.15x5.15mm [mm]
pads (65):
  rrect25% 0.875x0.25 smd: 1(-3.437,2.75) 2(-3.437,2.25) 3(-3.437,1.75) 4(-3.437,1.25) 5(-3.437,0.75) 6(-3.437,0.25) 7(-3.437,-0.25) 8(-3.437,-0.75) 9(-3.437,-1.25) 10(-3.437,-1.75) 11(-3.437,-2.25) 12(-3.437,-2.75) 25(3.437,-2.75) 26(3.437,-2.25) 27(3.437,-1.75) 28(3.437,-1.25) 29(3.437,-0.75) 30(3.437,-0.25) 31(3.437,0.25) 32(3.437,0.75) 33(3.437,1.25) 34(3.437,1.75) 35(3.437,2.25) 36(3.437,2.75)
  rrect25% 0.25x0.875 smd: 13(-2.75,-3.437) 14(-2.25,-3.437) 15(-1.75,-3.437) 16(-1.25,-3.437) 17(-0.75,-3.437) 18(-0.25,-3.437) 19(0.25,-3.437) 20(0.75,-3.437) 21(1.25,-3.437) 22(1.75,-3.437) 23(2.25,-3.437) 24(2.75,-3.437) 37(2.75,3.437) 38(2.25,3.437) 39(1.75,3.437) 40(1.25,3.437) 41(0.75,3.437) 42(0.25,3.437) 43(-0.25,3.437) 44(-0.75,3.437) 45(-1.25,3.437) 46(-1.75,3.437) 47(-2.25,3.437) 48(-2.75,3.437)
  rect 5.15x5.15 smd: 49(0,0)
  rrect24% 1.04x1.04 on Top Paste: Un1(-1.935,1.935) Un2(-1.935,0.645) Un3(-1.935,-0.645) Un4(-1.935,-1.935) Un5(-0.645,1.935) Un6(-0.645,0.645) Un7(-0.645,-0.645) Un8(-0.645,-1.935) Un9(0.645,1.935) Un10(0.645,0.645) Un11(0.645,-0.645) Un12(0.645,-1.935) Un13(1.935,1.935) Un14(1.935,0.645) Un15(1.935,-0.645) Un16(1.935,-1.935)
F.SilkS:
  region: -3.61,3.135 -3.91,3.31 -3.61,3.51
  lines w0.254: -3.61,-3.135 -3.61,-3.61 -3.135,-3.61 ; -3.61,3.135 -3.61,3.61 -3.135,3.61 ; 3.135,-3.61 3.61,-3.61 3.61,-3.135 ; 3.135,3.61 3.61,3.61 3.61,3.135
F.CrtYd:
  lines w0.254: -4.12,-4.12 -4.12,4.12 4.12,4.12 4.12,-4.12 -4.12,-4.12
F.Fab:
  lines w0.254: -3.5,-3.5 -3.5,2.5 -2.5,3.5 3.5,3.5 3.5,-3.5 -3.5,-3.5
  text "'.Designator'" at -1.037,0.065 h0.25

## QFN-48-1EP_8x8mm_P0.5mm_EP6.2x6.2mm [mm]
pads (74):
  rrect25% 0.95x0.25 smd: 1(-3.875,2.75) 2(-3.875,2.25) 3(-3.875,1.75) 4(-3.875,1.25) 5(-3.875,0.75) 6(-3.875,0.25) 7(-3.875,-0.25) 8(-3.875,-0.75) 9(-3.875,-1.25) 10(-3.875,-1.75) 11(-3.875,-2.25) 12(-3.875,-2.75) 25(3.875,-2.75) 26(3.875,-2.25) 27(3.875,-1.75) 28(3.875,-1.25) 29(3.875,-0.75) 30(3.875,-0.25) 31(3.875,0.25) 32(3.875,0.75) 33(3.875,1.25) 34(3.875,1.75) 35(3.875,2.25) 36(3.875,2.75)
  rrect25% 0.25x0.95 smd: 13(-2.75,-3.875) 14(-2.25,-3.875) 15(-1.75,-3.875) 16(-1.25,-3.875) 17(-0.75,-3.875) 18(-0.25,-3.875) 19(0.25,-3.875) 20(0.75,-3.875) 21(1.25,-3.875) 22(1.75,-3.875) 23(2.25,-3.875) 24(2.75,-3.875) 37(2.75,3.875) 38(2.25,3.875) 39(1.75,3.875) 40(1.25,3.875) 41(0.75,3.875) 42(0.25,3.875) 43(-0.25,3.875) 44(-0.75,3.875) 45(-1.25,3.875) 46(-1.75,3.875) 47(-2.25,3.875) 48(-2.75,3.875)
  rect 6.2x6.2 smd: 49(0,0)
  rrect25% 1x1 on Top Paste: Un1(-2.48,2.48) Un2(-2.48,1.24) Un3(-2.48,0) Un4(-2.48,-1.24) Un5(-2.48,-2.48) Un6(-1.24,2.48) Un7(-1.24,1.24) Un8(-1.24,0) Un9(-1.24,-1.24) Un10(-1.24,-2.48) Un11(0,2.48) Un12(0,1.24) Un13(0,0) Un14(0,-1.24) Un15(0,-2.48) Un16(1.24,2.48) Un17(1.24,1.24) Un18(1.24,0) Un19(1.24,-1.24) Un20(1.24,-2.48) Un21(2.48,2.48) Un22(2.48,1.24) Un23(2.48,0) Un24(2.48,-1.24) Un25(2.48,-2.48)
F.SilkS:
  region: -4.11,3.135 -4.41,3.31 -4.11,3.51
  lines w0.254: -4.11,-3.135 -4.11,-4.11 -3.135,-4.11 ; -4.11,3.135 -4.11,4.11 -3.135,4.11 ; 3.135,-4.11 4.11,-4.11 4.11,-3.135 ; 3.135,4.11 4.11,4.11 4.11,3.135
F.CrtYd:
  lines w0.254: -4.6,-4.6 -4.6,4.6 4.6,4.6 4.6,-4.6 -4.6,-4.6
F.Fab:
  lines w0.254: -4,-4 -4,3 -3,4 4,4 4,-4 -4,-4
  text "'.Designator'" at -1.037,0.065 h0.25

## QFN-56-1EP_7x7mm_P0.4mm_EP3.2x3.2mm [mm]
pads (61):
  rrect25% 0.875x0.2 smd: 1(-3.437,2.6) 2(-3.437,2.2) 3(-3.437,1.8) 4(-3.437,1.4) 5(-3.437,1) 6(-3.437,0.6) 7(-3.437,0.2) 8(-3.437,-0.2) 9(-3.437,-0.6) 10(-3.437,-1) 11(-3.437,-1.4) 12(-3.437,-1.8) 13(-3.437,-2.2) 14(-3.437,-2.6) 29(3.437,-2.6) 30(3.437,-2.2) 31(3.437,-1.8) 32(3.437,-1.4) 33(3.437,-1) 34(3.437,-0.6) 35(3.437,-0.2) 36(3.437,0.2) 37(3.437,0.6) 38(3.437,1) 39(3.437,1.4) 40(3.437,1.8) 41(3.437,2.2) 42(3.437,2.6)
  rrect25% 0.2x0.875 smd: 15(-2.6,-3.437) 16(-2.2,-3.437) 17(-1.8,-3.437) 18(-1.4,-3.437) 19(-1,-3.437) 20(-0.6,-3.437) 21(-0.2,-3.437) 22(0.2,-3.437) 23(0.6,-3.437) 24(1,-3.437) 25(1.4,-3.437) 26(1.8,-3.437) 27(2.2,-3.437) 28(2.6,-3.437) 43(2.6,3.437) 44(2.2,3.437) 45(1.8,3.437) 46(1.4,3.437) 47(1,3.437) 48(0.6,3.437) 49(0.2,3.437) 50(-0.2,3.437) 51(-0.6,3.437) 52(-1,3.437) 53(-1.4,3.437) 54(-1.8,3.437) 55(-2.2,3.437) 56(-2.6,3.437)
  rect 3.2x3.2 smd: 57(0,0)
  rrect19% 1.29x1.29 on Top Paste: Un1(-0.8,0.8) Un2(-0.8,-0.8) Un3(0.8,0.8) Un4(0.8,-0.8)
F.SilkS:
  region: -3.525,2.875 -3.825,3.05 -3.525,3.25
  lines w0.254: -3.525,-2.875 -3.525,-3.525 -2.875,-3.525 ; -3.525,2.875 -3.525,3.525 -2.875,3.525 ; 2.875,-3.525 3.525,-3.525 3.525,-2.875 ; 2.875,3.525 3.525,3.525 3.525,2.875
F.CrtYd:
  lines w0.254: -4.12,-4.12 -4.12,4.12 4.12,4.12 4.12,-4.12 -4.12,-4.12
F.Fab:
  lines w0.254: -3.5,-3.5 -3.5,2.5 -2.5,3.5 3.5,3.5 3.5,-3.5 -3.5,-3.5
  text "'.Designator'" at -2.073,0.03 h0.5